# EAGLE library part HEADER_IDC_12P (library bao)
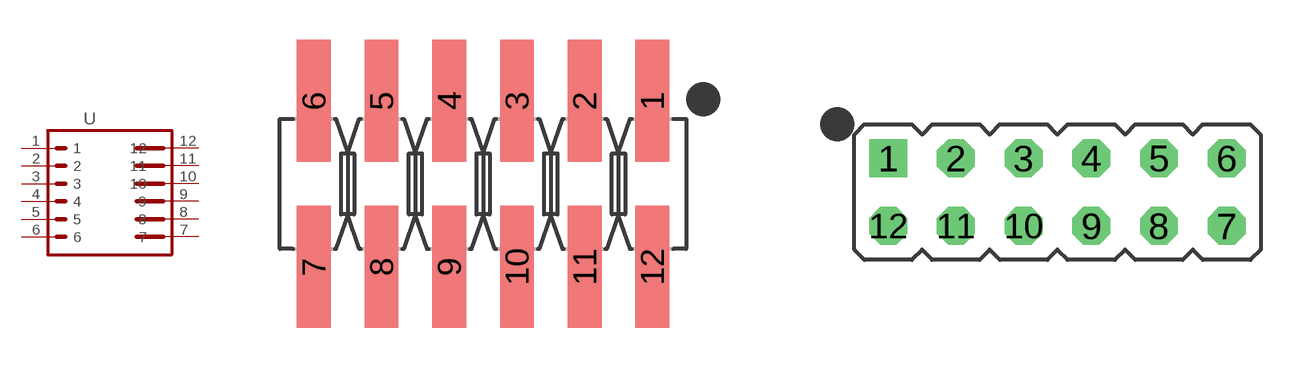
[diagram p17: symbol with the pads of HEADER_IDC_12P_SMD; footprints HEADER_IDC_12P_SMD, 12P_IDC_BLANK]

Designator prefix -

## HEADER_IDC_12P_SMD (NHPREF: 256; POPULATE: TRUE; VALUE: 12p_SMD)  [HEADER_IDC_12P_SMD]
1  1  pas
2  2  pas
3  3  pas
4  4  pas
5  5  pas
6  6  pas
7  7  pas
8  8  pas
9  9  pas
10  10  pas
11  11  pas
12  12  pas

## HEADER_IDC_12P_FEMALE_LONG (NHPREF: 257; POPULATE: TRUE; VALUE: 12p_FEMALE_long)  [12P_IDC_BLANK]
Pads as for HEADER_IDC_12P_SMD

## Footprint HEADER_IDC_12P_SMD (pad centres in mm)
smd 1.27 x 4.572: 1 6.35,3.113; 2 3.81,3.113; 3 1.27,3.113; 4 -1.27,3.113; 5 -3.81,3.113; 6 -6.35,3.113; 7 -6.35,-3.113; 8 -3.81,-3.113; 9 -1.27,-3.113; 10 1.27,-3.113; 11 3.81,-3.113; 12 6.35,-3.113

## Footprint 12P_IDC_BLANK (pad centres in mm)
drill 0.914 square: 1 -6.35,1.27
drill 0.914 octagon: 2 -3.81,1.27; 3 -1.27,1.27; 4 1.27,1.27; 5 3.81,1.27; 6 6.35,1.27; 7 6.35,-1.27; 8 3.81,-1.27; 9 1.27,-1.27; 10 -1.27,-1.27; 11 -3.81,-1.27; 12 -6.35,-1.27